# EAGLE library part FDC6420C (library TSOC_RS485_EM)
N and P Channel Power Trench MOSFETs
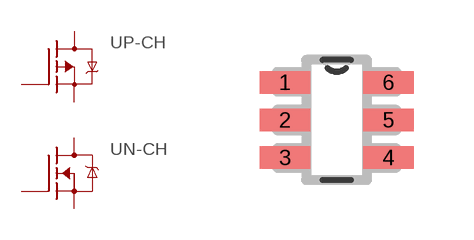
[diagram p2: symbol with the pads of SOT95P280X110-6N; footprint SOT95P280X110-6N]

Designator prefix -; gates N-CH=MOSFET-NCHANNEL P-CH=MOSFET-PCHANNEL

## FDC6420C  [SOT95P280X110-6N]
1  N-CH:G  pas
2  P-CH:S  pas
3  P-CH:G  pas
4  P-CH:D  pas
5  N-CH:S  pas
6  N-CH:D  pas

## Footprint SOT95P280X110-6N (pad centres in mm)
smd 1.27 x 0.559: 1 -1.295,0.94; 2 -1.295,0; 3 -1.295,-0.94; 4 1.295,-0.94; 5 1.295,0; 6 1.295,0.94